# EAGLE library part SL_12055_TPS63000 (library mylib)
Strawberry Linux TPS63000 昇降圧DC-DCコンバータモジュール(3.3V/5V)
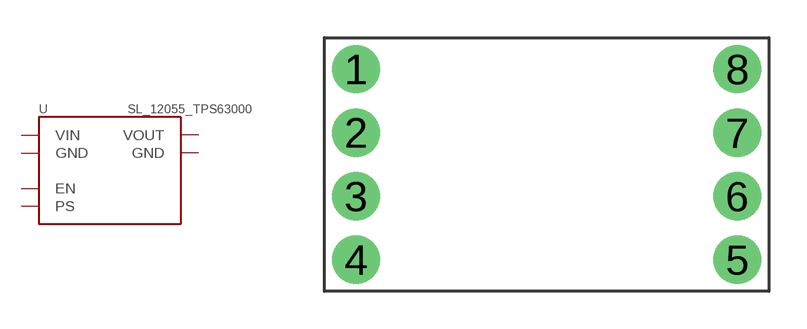
[diagram p2: symbol with the pads of SL_12055_TPS63000; footprint SL_12055_TPS63000]

Designator prefix U

## SL_12055_TPS63000  [SL_12055_TPS63000]
1  VIN  pwr
2  GND  pwr
3  EN  in
4  PS  in
5  GND  pwr
6  GND  pwr
7  VOUT  pwr
8  VOUT  pwr

## Footprint SL_12055_TPS63000 (pad centres in mm)
drill 1 pad 1.93: 1 -7.62,3.81; 2 -7.62,1.27; 3 -7.62,-1.27; 4 -7.62,-3.81; 5 7.62,-3.81; 6 7.62,-1.27; 7 7.62,1.27; 8 7.62,3.81